# EAGLE library part MQ2 (library MQ2)
Product: MQ2 Gas sensor
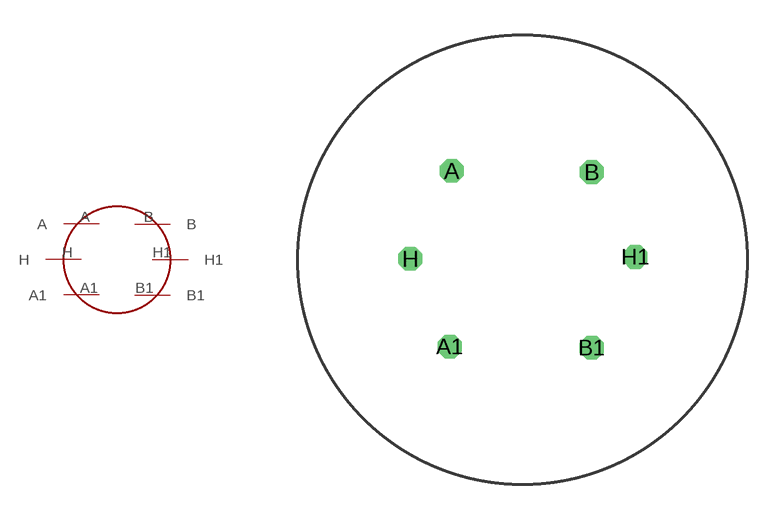
[diagram p0: symbol with the pads of MQ2; footprint MQ2]

Designator prefix SENSOR

## MQ2  [MQ2]
A  A
A1  A1
B  B
B1  B1
H  H
H1  H1

## Footprint MQ2 (pad centres in mm)
drill 0.5 pad 0.61 octagon: A -2.997,3.759; A1 -3.073,-3.708; B 2.946,3.708; B1 2.946,-3.759; H -4.75,0.025; H1 4.801,0.102